# Altium schematic symbol library Schlib_cloudy.SchLib: 5 symbols
Pins are listed as number, name and electrical type; pins without a type are passive.

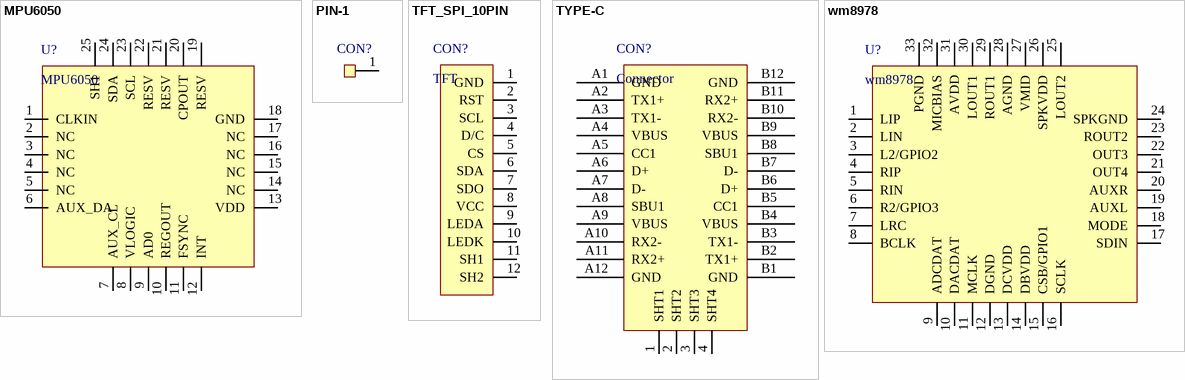
[diagram p0: symbols MPU6050 to wm8978]

## MPU6050
designator U?
footprint QFN50P400X400X90_HS-25N (QFN, 24-Leads, Body 4.00x4.00mm, Pitch 0.50mm, Thermal Pad 2.60x2.60mm, IPC Medium Density)
pins: 1 CLKIN, 2 NC, 3 NC, 4 NC, 5 NC, 6 AUX_DA, 7 AUX_CL, 8 VLOGIC, 9 AD0, 10 REGOUT, 11 FSYNC, 12 INT, 13 VDD, 14 NC, 15 NC, 16 NC, 17 NC, 18 GND, 19 RESV, 20 CPOUT, 21 RESV, 22 RESV, 23 SCL, 24 SDA, 25 SH1

## PIN-1
designator CON?, comment connector  (value not drawn)
footprint PIN-1-TEST
pins: 1

## TFT_SPI_10PIN
designator CON?, comment TFT
footprint FPC连接器 (0.5mm间距，翻盖下接)
pins: 1 GND, 2 RST, 3 SCL, 4 D/C, 5 CS, 6 SDA, 7 SDO, 8 VCC, 9 LEDA, 10 LEDK, 11 SH1, 12 SH2

## TYPE-C
designator CON?, comment Connector
footprint type-c
pins: 1 SHT1, 2 SHT2, 3 SHT3, 4 SHT4, A1 GND, A2 TX1+, A3 TX1-, A4 VBUS, A5 CC1, A6 D+, A7 D-, A8 SBU1, A9 VBUS, A10 RX2-, A11 RX2+, A12 GND, B1 GND, B2 TX1+, B3 TX1-, B4 VBUS, B5 CC1, B6 D+, B7 D-, B8 SBU1, B9 VBUS, B10 RX2-, B11 RX2+, B12 GND

## wm8978
designator U?
音频
footprint QFN50P500X500X80_HS-33N (QFN, 32-Leads, Body 5.00x5.00mm, Pitch 0.50mm, Thermal Pad 3.70x3.70mm, IPC Medium Density)
pins: 1 LIP, 2 LIN, 3 L2/GPIO2, 4 RIP, 5 RIN, 6 R2/GPIO3, 7 LRC, 8 BCLK, 9 ADCDAT, 10 DACDAT, 11 MCLK, 12 DGND, 13 DCVDD, 14 DBVDD, 15 CSB/GPIO1, 16 SCLK, 17 SDIN, 18 MODE, 19 AUXL, 20 AUXR, 21 OUT4, 22 OUT3, 23 ROUT2, 24 SPKGND, 25 LOUT2, 26 SPKVDD, 27 VMID, 28 AGND, 29 ROUT1, 30 LOUT1, 31 AVDD, 32 MICBIAS, 33 PGND